# Altium schematic symbol library Schlib1.SchLib: 5 symbols
Pins are listed as number, name and electrical type; pins without a type are passive.

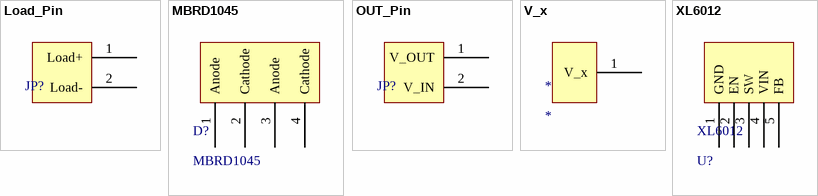
[diagram p0: symbols Load_Pin to XL6012]

## Load_Pin
designator JP?
footprint connect
pins: 1 Load+, 2 Load-

## MBRD1045
designator D?
footprint TO-252
pins: 1 Anode, 2 Cathode, 3 Anode, 4 Cathode

## OUT_Pin
designator JP?
footprint connect
pins: 1 V_OUT, 2 V_IN

## V_x
designator *
footprint PCBComponent_1
pins: 1 V_x

## XL6012
designator XL6012, comment U?
footprint T220-5
pins: 1 GND, 2 EN, 3 SW, 4 VIN, 5 FB